# Altium footprint library S1-CM-V3.41.PcbLib: 63 footprints (part 4 of 4)
Each footprint in its own frame and in the unit in brackets; x right, y up, seen from the top. Pads: shape width x height; smd on the part's side, far side on the other; paste and mask are expansions set on the pad; w line width, h text height; cw(c..) or ccw(c..) is an arc to the next point about the centre after c.
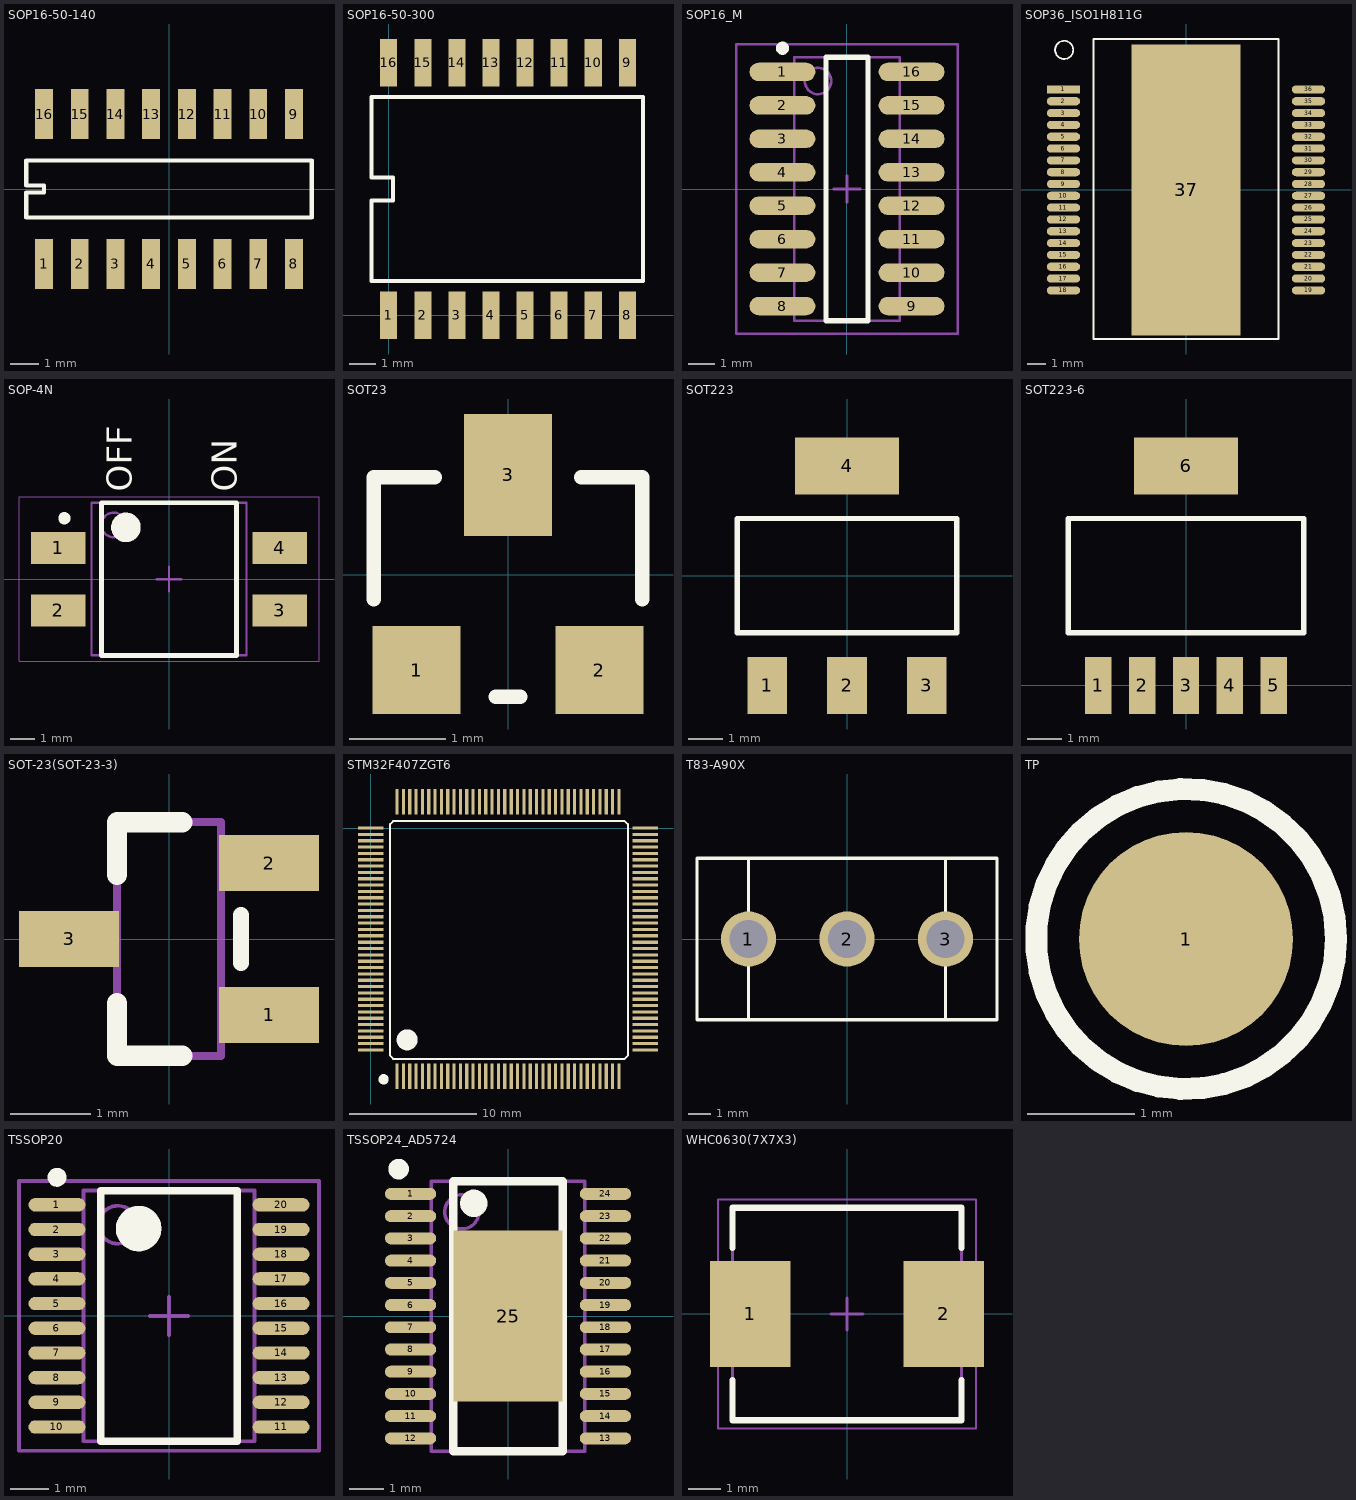
[diagram p3: the footprints below, top view; thin cyan lines are the x and y axes]

## SOP16-50-140 [mil]
pads (16):
  rect 25x70 smd: 1(-175,-105) 2(-125,-105) 3(-75,-105) 4(-25,-105) 5(25,-105) 6(75,-105) 7(125,-105) 8(175,-105) 9(175,105) 10(125,105) 11(75,105) 12(25,105) 13(-25,105) 14(-75,105) 15(-125,105) 16(-175,105)
Top Overlay:
  lines w6: -200,-40 -200,-5 -175,-5 -175,5 -200,5 -200,40 200,40 200,-40 -200,-40

## SOP16-50-300 [mil]
pads (16):
  rect 25x70 smd: 1(0,0) 2(50,0) 3(100,0) 4(150,0) 5(200,0) 6(250,0) 7(300,0) 8(350,0) 9(350,370) 10(300,370) 11(250,370) 12(200,370) 13(150,370) 14(100,370) 15(50,370) 16(0,370)
Top Overlay:
  lines w6: -25,50 -25,168.12 6.25,168.12 6.25,201.88 -25,201.88 -25,320 373,320 373,50 -25,50

## SOP16_M [mm]
pads (16):
  oval 2.5x0.7 smd: 1(-2.45,4.445) 2(-2.45,3.175) 3(-2.45,1.905) 4(-2.45,0.635) 5(-2.45,-0.635) 6(-2.45,-1.905) 7(-2.45,-3.175) 8(-2.45,-4.445) 9(2.45,-4.445) 10(2.45,-3.175) 11(2.45,-1.905) 12(2.45,-0.635) 13(2.45,0.635) 14(2.45,1.905) 15(2.45,3.175) 16(2.45,4.445)
Top Overlay:
  circle w0.25: c-2.45,5.345 r0.125
  lines w0.2: -0.8,-5 -0.8,5 0.8,5 0.8,-5 -0.8,-5
Mechanical 13:
  circle w0.1: c-1.1,4.1 r0.5
  lines w0.1: -2,-5 -2,5 2,5 2,-5 -2,-5
Mechanical 15:
  lines w0.1: -0.5,0 0.5,0 ; 0,-0.5 0,0.5 ; -4.2,-5.5 -4.2,5.5 4.2,5.5 4.2,-5.5 -4.2,-5.5
3D body: height 1.75, standoff 0, extent -2,-5 2,5

## SOP36_ISO1H811G [mm]
height 3.5
pads (37):
  rect 1.83x0.45 smd mask+0.05: 1(-6.74,5.525)
  oval 1.83x0.45 smd mask+0.05: 2(-6.74,4.875) 3(-6.74,4.225) 4(-6.74,3.575) 5(-6.74,2.925) 6(-6.74,2.275) 7(-6.74,1.625) 8(-6.74,0.975) 9(-6.74,0.325) 10(-6.74,-0.325) 11(-6.74,-0.975) 12(-6.74,-1.625) 13(-6.74,-2.275) 14(-6.74,-2.925) 15(-6.74,-3.575) 16(-6.74,-4.225) 17(-6.74,-4.875) 18(-6.74,-5.525) 19(6.74,-5.525) 20(6.74,-4.875) 21(6.74,-4.225) 22(6.74,-3.575) 23(6.74,-2.925) 24(6.74,-2.275) 25(6.74,-1.625) 26(6.74,-0.975) 27(6.74,-0.325) 28(6.74,0.325) 29(6.74,0.975) 30(6.74,1.625) 31(6.74,2.275) 32(6.74,2.925) 33(6.74,3.575) 34(6.74,4.225) 35(6.74,4.875) 36(6.74,5.525)
  rect 6x16 smd mask+0: 37(0,0)
Top Overlay:
  circle w0.1: c-6.7,7.7 r0.5
  lines w0.1: -5.09,-8.2 5.09,-8.2 5.09,8.3 -5.09,8.3 -5.09,-8.2
3D body: height 0.25, standoff 0, extent -5.1,-8.2 5.1,8.3

## SOP-4N [mm] "两位伯码开关"
height 3.6
pads (4):
  rect 2.2x1.3 smd: 1(-4.5,1.27) 2(-4.5,-1.27) 3(4.5,-1.27) 4(4.5,1.27)
Top Overlay:
  circle w0.25: c-4.25,2.47 r0.125
  circle w0.6: c-1.75,2.1 r0.3
  lines w0.2: -2.75,-3.1 -2.75,3.1 2.75,3.1 2.75,-3.1 -2.75,-3.1
  text "ON" at 2.75,3.556 h1.02
  text "OFF" at -1.524,3.556 h1.02
Mechanical 13:
  circle w0.1: c-2.25,2.2 r0.5
  lines w0.1: -3.15,-3.1 -3.15,3.1 3.15,3.1 3.15,-3.1 -3.15,-3.1
Mechanical 15:
  lines w0.05: -6.096,-3.35 -6.096,3.35 6.096,3.35 6.096,-3.35 -6.096,-3.35
  lines w0.1: -0.5,0 0.5,0 ; 0,-0.5 0,0.5
3D body: height 3.6, standoff 0, extent -4.925,-3.1 4.925,3.1

## SOT23 [mil]
pads (3):
  rect 36x36 smd: 1(-37.5,-39) 2(37.5,-39)
  rect 36x50 smd: 3(0,41)
Top Overlay:
  lines w6: -55,-10 -55,40 -30,40 ; -5,-50 5,-50 ; 30,40 55,40 55,-10

## SOT223 [mil]
pads (4):
  rect 45x65 smd: 1(-91,-125) 2(0,-125) 3(91,-125)
  rect 118x65 smd: 4(0,125)
Top Overlay:
  lines w6: -125,-65 -125,65 125,65 125,-65 -125,-65

## SOT223-6 [mil]
pads (6):
  rect 30x65 smd: 1(-100,0) 2(-50,0) 3(0,0) 4(50,0) 5(100,0)
  rect 118x65 smd: 6(0,250)
Top Overlay:
  lines w6: -134,60 134,60 134,190 -134,190 -134,60

## SOT-23(SOT-23-3) [mm]
pads (3):
  rect 1.25x0.7 smd: 1(1.25,-0.95) 2(1.25,0.95) 3(-1.25,0)
Top Overlay:
  lines w0.2: 0.9,-0.3 0.9,0.3
  lines w0.254: -0.65,-0.8 -0.65,-1.46 0.165,-1.46 ; 0.165,1.46 -0.65,1.46 ; -0.65,0.8 -0.65,1.46 ; -0.65,0.8 -0.65,1.46 ; -0.65,0.8 -0.65,1.46
Mechanical 13:
  lines w0.1: -0.65,-1.46 -0.65,1.46 ; -0.65,-1.46 0.65,-1.46 ; -0.65,-1.46 -0.65,1.46 ; -0.65,-1.46 0.65,-1.46 ; -0.65,-1.46 0.65,-1.46 ; -0.65,-1.46 -0.65,1.46 ; -0.65,1.46 0.65,1.46 ; -0.65,1.46 0.65,1.46 ; -0.65,1.46 0.65,1.46 ; 0.65,-1.46 0.65,1.46 ; 0.65,-1.46 0.65,1.46 ; 0.65,-1.46 0.65,1.46
3D body: height 1.3, standoff 0, extent -1.5,-1.5 1.5,1.5

## STM32F407ZGT6 [mm]
pads (144):
  rect 0.25x2 smd: 1(2.075,-19.575) 2(2.575,-19.575) 3(3.075,-19.575) 4(3.575,-19.575) 5(4.075,-19.575) 6(4.575,-19.575) 7(5.075,-19.575) 8(5.575,-19.575) 9(6.075,-19.575) 10(6.575,-19.575) 11(7.075,-19.575) 12(7.575,-19.575) 13(8.075,-19.575) 14(8.575,-19.575) 15(9.075,-19.575) 16(9.575,-19.575) 17(10.075,-19.575) 18(10.575,-19.575) 19(11.075,-19.575) 20(11.575,-19.575) 21(12.075,-19.575) 22(12.575,-19.575) 23(13.075,-19.575) 24(13.575,-19.575) 25(14.075,-19.575) 26(14.575,-19.575) 27(15.075,-19.575) 28(15.575,-19.575) 29(16.075,-19.575) 30(16.575,-19.575) 31(17.075,-19.575) 32(17.575,-19.575) 33(18.075,-19.575) 34(18.575,-19.575) 35(19.075,-19.575) 36(19.575,-19.575) 73(19.575,2.075) 74(19.075,2.075) 75(18.575,2.075) 76(18.075,2.075) 77(17.575,2.075) 78(17.075,2.075) 79(16.575,2.075) 80(16.075,2.075) 81(15.575,2.075) 82(15.075,2.075) 83(14.575,2.075) 84(14.075,2.075) 85(13.575,2.075) 86(13.075,2.075) 87(12.575,2.075) 88(12.075,2.075) 89(11.575,2.075) 90(11.075,2.075) 91(10.575,2.075) 92(10.075,2.075) 93(9.575,2.075) 94(9.075,2.075) 95(8.575,2.075) 96(8.075,2.075) 97(7.575,2.075) 98(7.075,2.075) 99(6.575,2.075) 100(6.075,2.075) 101(5.575,2.075) 102(5.075,2.075) 103(4.575,2.075) 104(4.075,2.075) 105(3.575,2.075) 106(3.075,2.075) 107(2.575,2.075) 108(2.075,2.075)
  rect 2x0.25 smd: 37(21.65,-17.5) 38(21.65,-17) 39(21.65,-16.5) 40(21.65,-16) 41(21.65,-15.5) 42(21.65,-15) 43(21.65,-14.5) 44(21.65,-14) 45(21.65,-13.5) 46(21.65,-13) 47(21.65,-12.5) 48(21.65,-12) 49(21.65,-11.5) 50(21.65,-11) 51(21.65,-10.5) 52(21.65,-10) 53(21.65,-9.5) 54(21.65,-9) 55(21.65,-8.5) 56(21.65,-8) 57(21.65,-7.5) 58(21.65,-7) 59(21.65,-6.5) 60(21.65,-6) 61(21.65,-5.5) 62(21.65,-5) 63(21.65,-4.5) 64(21.65,-4) 65(21.65,-3.5) 66(21.65,-3) 67(21.65,-2.5) 68(21.65,-2) 69(21.65,-1.5) 70(21.65,-1) 71(21.65,-0.5) 72(21.65,0) 109(0,0) 110(0,-0.5) 111(0,-1) 112(0,-1.5) 113(0,-2) 114(0,-2.5) 115(0,-3) 116(0,-3.5) 117(0,-4) 118(0,-4.5) 119(0,-5) 120(0,-5.5) 121(0,-6) 122(0,-6.5) 123(0,-7) 124(0,-7.5) 125(0,-8) 126(0,-8.5) 127(0,-9) 128(0,-9.5) 129(0,-10) 130(0,-10.5) 131(0,-11) 132(0,-11.5) 133(0,-12) 134(0,-12.5) 135(0,-13) 136(0,-13.5) 137(0,-14) 138(0,-14.5) 139(0,-15) 140(0,-15.5) 141(0,-16) 142(0,-16.5) 143(0,-17) 144(0,-17.5)
Top Overlay:
  circle w0.457: c1.016,-19.812 r0.178
  circle w0.889: c2.875,-16.7 r0.381
  lines w0.152: 1.525,-17.95 1.525,0.3 1.775,0.55 20.025,0.55 20.275,0.3 20.275,-17.95 20.025,-18.2 1.775,-18.2 1.525,-17.95

## T83-A90X [mil]
pads (3):
  round 97 hole 67: 1(-173.23,0) 2(0,0) 3(173.23,0)
Top Overlay:
  lines w6: -173.23,-141.73 -173.23,-44.17 ; -173.23,39.74 -173.23,141.73 ; 173.23,-141.73 173.23,-42.44 ; 173.23,42.97 173.23,141.73 ; -263.78,-141.73 263.78,-141.73 263.78,141.73 -263.78,141.73 -263.78,-141.73

## TP [mm]
pads (1):
  round 2 smd: 1(50.8,-45.72)
Top Overlay:
  circle w0.203: c50.8,-45.72 r1.4

## TSSOP20 [mm] "TSOP, 20-Leads, Body 6.5x4.4mm, Pitch 0.65mm, IPC Medium Density"
height 1.1
pads (20):
  oval 1.5x0.35 smd: 1(-2.95,2.925) 2(-2.95,2.275) 3(-2.95,1.625) 4(-2.95,0.975) 5(-2.95,0.325) 6(-2.95,-0.325) 7(-2.95,-0.975) 8(-2.95,-1.625) 9(-2.95,-2.275) 10(-2.95,-2.925) 11(2.95,-2.925) 12(2.95,-2.275) 13(2.95,-1.625) 14(2.95,-0.975) 15(2.95,-0.325) 16(2.95,0.325) 17(2.95,0.975) 18(2.95,1.625) 19(2.95,2.275) 20(2.95,2.925)
Top Overlay:
  circle w0.6: c-0.8,2.3 r0.3
  circle w0.25: c-2.95,3.65 r0.125
  lines w0.2: -1.8,-3.3 1.8,-3.3 1.8,3.3 -1.8,3.3 -1.8,-3.3
Mechanical 13:
  circle w0.1: c-1.35,2.4 r0.5
  lines w0.1: -2.25,-3.3 2.25,-3.3 2.25,3.3 -2.25,3.3 -2.25,-3.3
Mechanical 15:
  lines w0.1: -0.5,0 0.5,0 ; 0,-0.5 0,0.5 ; -3.95,-3.55 3.95,-3.55 3.95,3.55 -3.95,3.55 -3.95,-3.55
3D body: height 1.1, standoff 0, extent -2.25,-3.3 2.25,3.3

## TSSOP24_AD5724 [mm]
pads (25):
  oval 1.5x0.35 smd: 1(-2.85,3.575) 2(-2.85,2.925) 3(-2.85,2.275) 4(-2.85,1.625) 5(-2.85,0.975) 6(-2.85,0.325) 7(-2.85,-0.325) 8(-2.85,-0.975) 9(-2.85,-1.625) 10(-2.85,-2.275) 11(-2.85,-2.925) 12(-2.85,-3.575) 13(2.85,-3.575) 14(2.85,-2.925) 15(2.85,-2.275) 16(2.85,-1.625) 17(2.85,-0.975) 18(2.85,-0.325) 19(2.85,0.325) 20(2.85,0.975) 21(2.85,1.625) 22(2.85,2.275) 23(2.85,2.925) 24(2.85,3.575)
  rect 3.2x5 smd paste+0 mask+0: 25(0,0)
Top Overlay:
  circle w0.4: c-1,3.3 r0.2
  circle w0.3: c-3.2,4.3 r0.15
  lines w0.254: -1.6,-3.95 -1.6,3.95 1.6,3.95 1.6,-3.95 -1.6,-3.95
Mechanical 13:
  circle w0.1: c-1.35,3.05 r0.5
  lines w0.1: -2.25,-3.95 -2.25,3.95 2.25,3.95 2.25,-3.95 -2.25,-3.95
3D body: height 0.5, standoff 0, extent -1.7,-4.05 1.7,4.05

## WHC0630(7X7X3) [mm]
pads (2):
  rect 2.5x3.3 smd: 1(-3,0) 2(3,0)
Top Overlay:
  lines w0.2: -3.55,-2.05 -3.55,-3.3 3.55,-3.3 3.55,-2.05 ; -3.55,2.05 -3.55,3.3 3.55,3.3 3.55,2.05
Mechanical 13:
  lines w0.1: -3.55,-3.3 -3.55,3.3 3.55,3.3 3.55,-3.3 -3.55,-3.3
Mechanical 15:
  lines w0.05: -4,-3.55 -4,3.55 4,3.55 4,-3.55 -4,-3.55
  lines w0.1: -0.5,0 0.5,0 ; 0,-0.5 0,0.5
3D body: height 3.2, standoff 0, extent -3.55,-3.3 3.55,3.3